# EAGLE library part MMA8653FC (library POVLibrary)
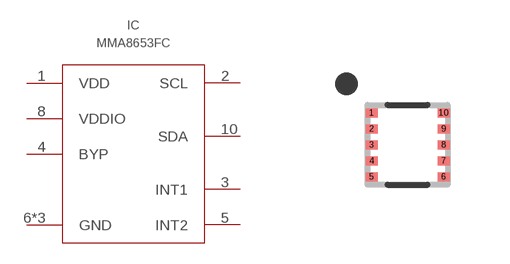
[diagram p3: symbol with the pads of SM_DFN10; footprint SM_DFN10]

Designator prefix IC

## MMA8653FC  [SM_DFN10]
1  VDD
2  SCL
3  INT1
4  BYP
5  INT2
6  GND
7  GND
8  VDDIO
9  GND
10  SDA

## Footprint SM_DFN10 (pad centres in mm)
smd 0.3 x 0.225: 1 -0.9,0.8; 2 -0.9,0.4; 3 -0.9,0; 4 -0.9,-0.4; 5 -0.9,-0.8; 6 0.9,-0.8; 7 0.9,-0.4; 8 0.9,0; 9 0.9,0.4; 10 0.9,0.8